# Altium footprint library 5055700701.PcbLib: 1 footprints
Each footprint in its own frame and in the unit in brackets; x right, y up, seen from the top. Pads: shape width x height; smd on the part's side, far side on the other; paste and mask are expansions set on the pad; w line width, h text height; cw(c..) or ccw(c..) is an arc to the next point about the centre after c.

## 5055700701 [mm]
3D body "5055700701.stp": height 6.55, standoff 0.85, extent -8.4,0 8.4,8.4